# EAGLE library part ESP8266EX (library wifi)
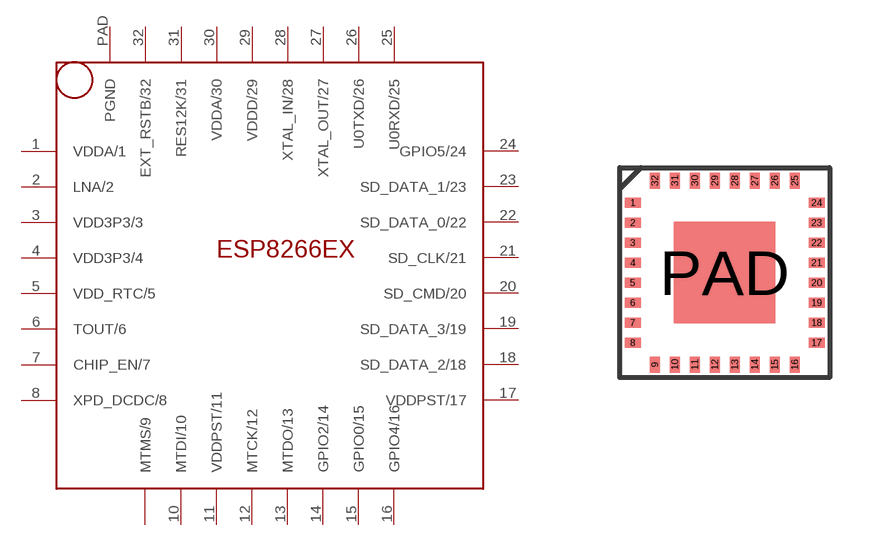
[diagram p1: symbol with the pads of QFN32; footprint QFN32]

Designator prefix U

## ESP8266EX  [QFN32]
1  VDDA/1
2  LNA/2
3  VDD3P3/3
4  VDD3P3/4
5  VDD_RTC/5
6  TOUT/6
7  CHIP_EN/7
8  XPD_DCDC/8
9  MTMS/9
10  MTDI/10
11  VDDPST/11
12  MTCK/12
13  MTDO/13
14  GPIO2/14
15  GPIO0/15
16  GPIO4/16
17  VDDPST/17
18  SD_DATA_2/18
19  SD_DATA_3/19
20  SD_CMD/20
21  SD_CLK/21
22  SD_DATA_0/22
23  SD_DATA_1/23
24  GPIO5/24
25  U0RXD/25
26  U0TXD/26
27  XTAL_OUT/27
28  XTAL_IN/28
29  VDDD/29
30  VDDA/30
31  RES12K/31
32  EXT_RSTB/32
PAD  PGND

## Footprint QFN32 (pad centres in mm)
smd 0.4 x 0.25: 1 -2.3,1.75; 2 -2.3,1.25; 3 -2.3,0.75; 4 -2.3,0.25; 5 -2.3,-0.25; 6 -2.3,-0.75; 7 -2.3,-1.25; 8 -2.3,-1.75; 17 2.3,-1.75; 18 2.3,-1.25; 19 2.3,-0.75; 20 2.3,-0.25; 21 2.3,0.25; 22 2.3,0.75; 23 2.3,1.25; 24 2.3,1.75
smd 0.25 x 0.4: 9 -1.75,-2.3; 10 -1.25,-2.3; 11 -0.75,-2.3; 12 -0.25,-2.3; 13 0.25,-2.3; 14 0.75,-2.3; 15 1.25,-2.3; 16 1.75,-2.3; 25 1.75,2.3; 26 1.25,2.3; 27 0.75,2.3; 28 0.25,2.3; 29 -0.25,2.3; 30 -0.75,2.3; 31 -1.25,2.3; 32 -1.75,2.3
smd 2.54 x 2.54: PAD 0,0